# Altium footprint library jointbar.PCBLIB: 193 footprints (part 7 of 13)
Each footprint in its own frame and in the unit in brackets; x right, y up, seen from the top. Pads: shape width x height; smd on the part's side, far side on the other; paste and mask are expansions set on the pad; w line width, h text height; cw(c..) or ccw(c..) is an arc to the next point about the centre after c.
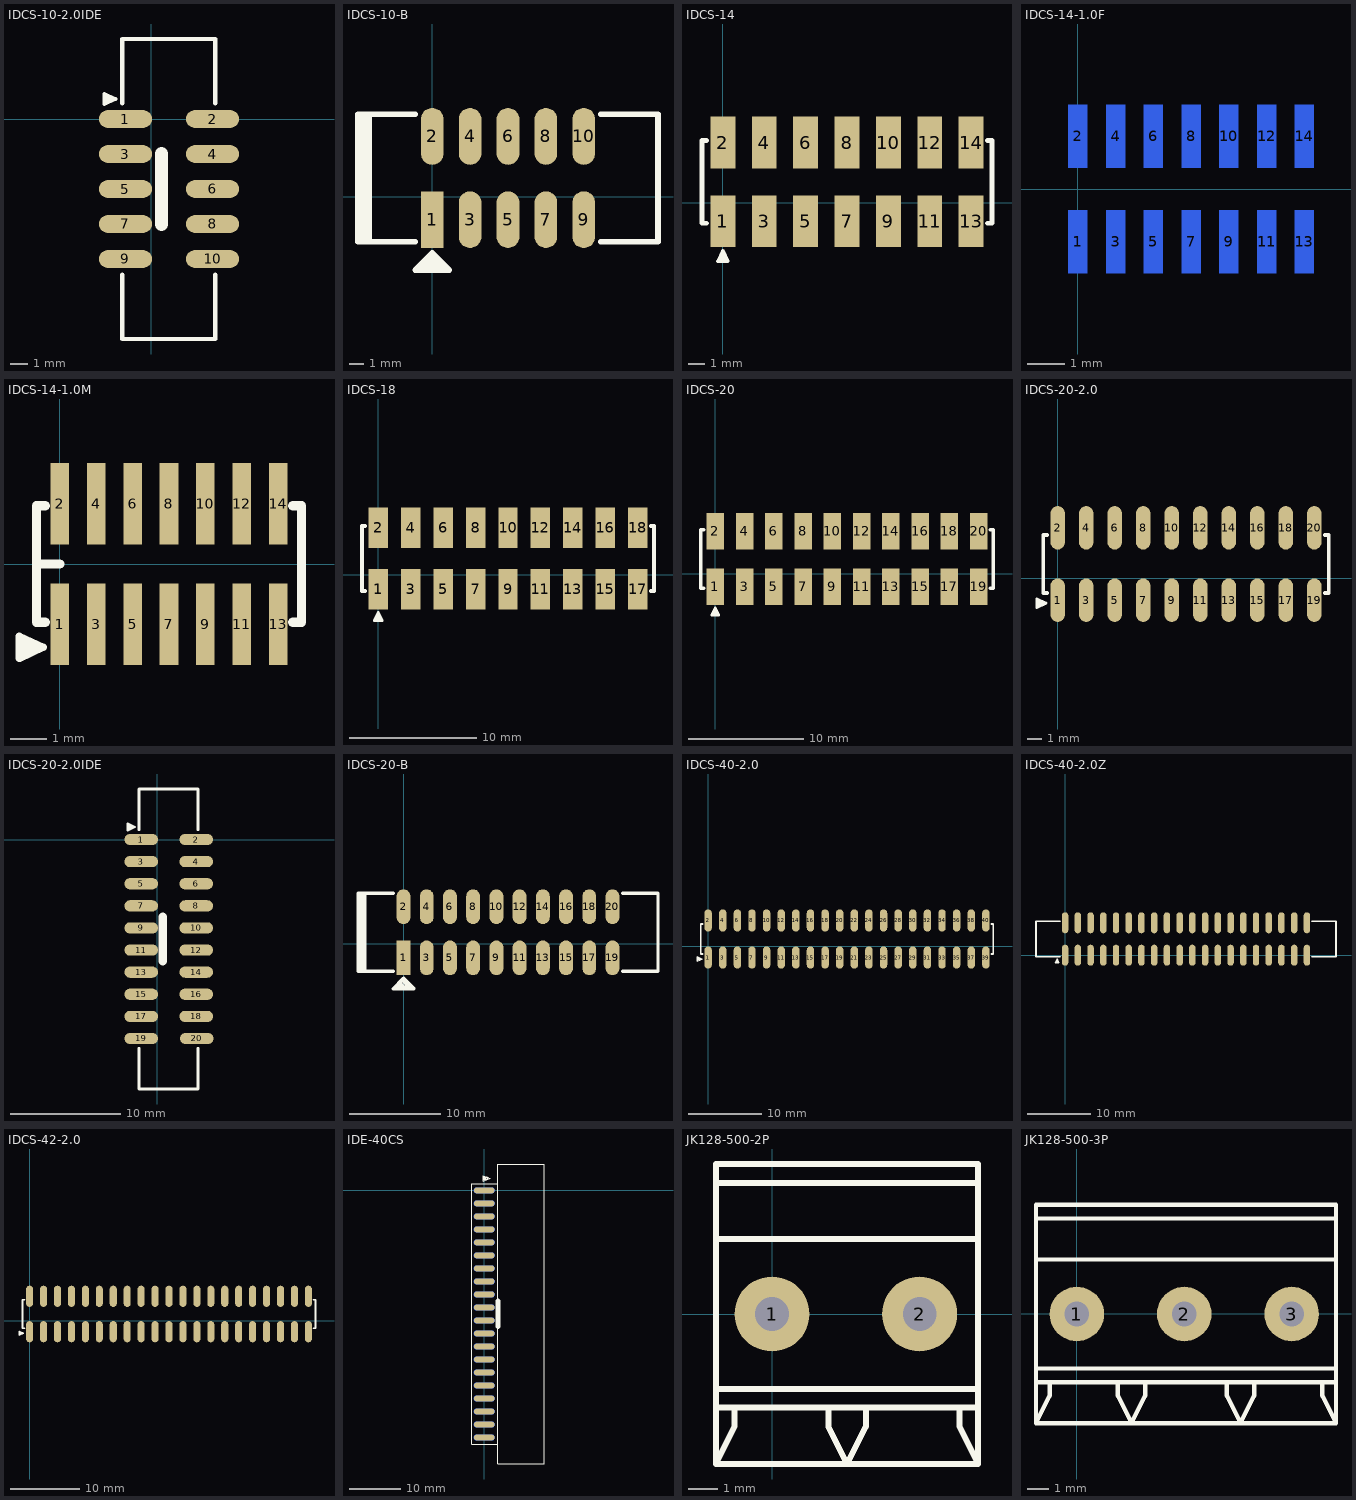
[diagram p6: the footprints below, top view; thin cyan lines are the x and y axes]

## IDCS-10-2.0IDE [mil]
pads (10):
  oval 120x40 smd: 1(-58,0) 2(138,0) 3(-58,-78.74) 4(138,-78.74) 5(-58,-157.48) 6(138,-157.48) 7(-58,-236.22) 8(138,-236.22) 9(-58,-314.96) 10(138,-314.96)
TopOverlay:
  lines w8: -106,33 -106,57 -80,45 -106,33
  lines w10: -65.63,-349.96 -65.63,-494.96 144.37,-494.96 144.37,-349.96 ; -65.63,35 -65.63,180 144.37,180 144.37,35
  lines w12: -104,45 -89,45
  lines w30: 23,-236.66 23,-78

## IDCS-10-B [mil]
pads (10):
  rect 60x150 smd: 1(0,-60)
  oval 60x150 smd: 2(0,160) 3(100,-60) 4(100,160) 5(200,-60) 6(200,160) 7(300,-60) 8(300,160) 9(400,-60) 10(400,160)
TopOverlay:
  lines w8: -12,-160 12,-160
  lines w15: -181,-118 -181,218 ; -167,-118 -167,218 ; -45,-118 -196,-118 -196,218 -45,218 ; -30.76,-182.24 -20,-193 ; -22.85,-175.15 -5,-193 ; -16.42,-166.58 10,-193 ; -5.68,-157.32 30,-193 ; 445,-118 596,-118 596,218 445,218 ; -45,-193 0,-148 45,-193 -45,-193

## IDCS-14 [mil]
pads (14):
  rect 60x125 smd: 1(0,-45) 2(0,145) 3(100,-45) 4(100,145) 5(200,-45) 6(200,145) 7(300,-45) 8(300,145) 9(400,-45) 10(400,145) 11(500,-45) 12(500,145) 13(600,-45) 14(600,145)
TopOverlay:
  lines w8: -12,-142 0,-116 12,-142 -12,-142
  lines w12: -40,-50 -50,-50 -50,150 -40,150 ; 0,-140 0,-125 ; 640,-50 650,-50 650,150 640,150

## IDCS-14-1.0F [mil]
pads (14):
  rect 20x66 smd far side: 1(0,-55) 2(0,55) 3(39.37,-55) 4(39.37,55) 5(78.74,-55) 6(78.74,55) 7(118.11,-55) 8(118.11,55) 9(157.48,-55) 10(157.48,55) 11(196.85,-55) 12(196.85,55) 13(236.22,-55) 14(236.22,55)
BottomOverlay:
  lines w8: -43.63,-82 -43.63,-58 -17.63,-70 -43.63,-82
  lines w10: -30,0 0,0 ; -20.63,-50 -30,-50 -30,50 -20.63,50 ; 256.85,-50 266.22,-50 266.22,50 256.85,50
  lines w12: -41.63,-70 -26.63,-70

## IDCS-14-1.0M [mil]
pads (14):
  rect 20x88 smd: 1(0,-65) 2(0,65) 3(39.37,-65) 4(39.37,65) 5(78.74,-65) 6(78.74,65) 7(118.11,-65) 8(118.11,65) 9(157.48,-65) 10(157.48,65) 11(196.85,-65) 12(196.85,65) 13(236.22,-65) 14(236.22,65)
TopOverlay:
  lines w8: -43.63,-102 -43.63,-78 -17.63,-90 -43.63,-102
  lines w10: -25,0 0,0 ; -15.63,-63 -25,-63 -25,63 -15.63,63 ; 251.85,-63 261.22,-63 261.22,63 251.85,63
  lines w12: -41.63,-90 -26.63,-90

## IDCS-18 [mil]
pads (18):
  rect 60x125 smd: 1(0,-45) 2(0,145) 3(100,-45) 4(100,145) 5(200,-45) 6(200,145) 7(300,-45) 8(300,145) 9(400,-45) 10(400,145) 11(500,-45) 12(500,145) 13(600,-45) 14(600,145) 15(700,-45) 16(700,145) 17(800,-45) 18(800,145)
TopOverlay:
  lines w8: -12,-142 0,-116 12,-142 -12,-142
  lines w12: -40,-50 -50,-50 -50,150 -40,150 ; 0,-140 0,-125 ; 840,-50 850,-50 850,150 840,150

## IDCS-20 [mil]
pads (20):
  rect 60x125 smd: 1(0,-45) 2(0,145) 3(100,-45) 4(100,145) 5(200,-45) 6(200,145) 7(300,-45) 8(300,145) 9(400,-45) 10(400,145) 11(500,-45) 12(500,145) 13(600,-45) 14(600,145) 15(700,-45) 16(700,145) 17(800,-45) 18(800,145) 19(900,-45) 20(900,145)
TopOverlay:
  lines w8: -12,-142 12,-142 0,-116 -12,-142
  lines w12: -40,-50 -50,-50 -50,150 -40,150 ; 0,-140 0,-125 ; 940,-50 950,-50 950,150 940,150

## IDCS-20-2.0 [mil]
pads (20):
  oval 40x120 smd: 1(0,-60) 2(0,140) 3(78.74,-60) 4(78.74,140) 5(157.48,-60) 6(157.48,140) 7(236.22,-60) 8(236.22,140) 9(314.96,-60) 10(314.96,140) 11(393.7,-60) 12(393.7,140) 13(472.44,-60) 14(472.44,140) 15(551.18,-60) 16(551.18,140) 17(629.92,-60) 18(629.92,140) 19(708.66,-60) 20(708.66,140)
TopOverlay:
  lines w8: -57.89,-80.26 -57.89,-56.26 -31.89,-68.26 -57.89,-80.26
  lines w10: -29,-40 -40,-40 -40,120 -29,120 ; 737.66,-40 748.66,-40 748.66,120 737.66,120
  lines w12: -55.89,-68.26 -40.89,-68.26

## IDCS-20-2.0IDE [mil]
pads (20):
  oval 120x40 smd: 1(-58,0) 2(138,0) 3(-58,-78.74) 4(138,-78.74) 5(-58,-157.48) 6(138,-157.48) 7(-58,-236.22) 8(138,-236.22) 9(-58,-314.96) 10(138,-314.96) 11(-58,-393.7) 12(138,-393.7) 13(-58,-472.44) 14(138,-472.44) 15(-58,-551.18) 16(138,-551.18) 17(-58,-629.92) 18(138,-629.92) 19(-58,-708.66) 20(140,-708.66)
TopOverlay:
  lines w8: -106,33 -80,45 -106,57 -106,33
  lines w10: -65.63,-743.66 -65.63,-888.66 144.37,-888.66 144.37,-743.66 ; -65.63,35 -65.63,180 144.37,180 144.37,35
  lines w12: -104,45 -89,45
  lines w30: 18,-433.66 18,-275

## IDCS-20-B [mil]
pads (20):
  rect 60x150 smd: 1(0,-60)
  oval 60x150 smd: 2(0,160) 3(100,-60) 4(100,160) 5(200,-60) 6(200,160) 7(300,-60) 8(300,160) 9(400,-60) 10(400,160) 11(500,-60) 12(500,160) 13(600,-60) 14(600,160) 15(700,-60) 16(700,160) 17(800,-60) 18(800,160) 19(900,-60) 20(900,160)
TopOverlay:
  lines w8: -12,-160 12,-160
  lines w15: -182,-118 -182,218 ; -167,-118 -167,218 ; -45,-118 -196,-118 -196,218 -45,218 ; -30.76,-182.24 -20,-193 ; -22.85,-175.15 -5,-193 ; -16.42,-166.58 10,-193 ; -5.68,-157.32 30,-193 ; 945,-118 1096,-118 1096,218 945,218 ; -45,-193 0,-148 45,-193 -45,-193

## IDCS-40-2.0 [mil]
pads (40):
  oval 40x120 smd: 1(0,-60) 2(0,140) 3(78.74,-60) 4(78.74,140) 5(157.48,-60) 6(157.48,140) 7(236.22,-60) 8(236.22,140) 9(314.96,-60) 10(314.96,140) 11(393.7,-60) 12(393.7,140) 13(472.44,-60) 14(472.44,140) 15(551.18,-60) 16(551.18,140) 17(629.92,-60) 18(629.92,140) 19(708.66,-60) 20(708.66,140) 21(787.4,-60) 22(787.4,140) 23(866.14,-60) 24(866.14,140) 25(944.88,-60) 26(944.88,140) 27(1023.62,-60) 28(1023.62,140) 29(1102.36,-60) 30(1102.36,140) 31(1181.1,-60) 32(1181.1,140) 33(1259.84,-60) 34(1259.84,140) 35(1338.58,-60) 36(1338.58,140) 37(1417.32,-60) 38(1417.32,140) 39(1496.06,-60) 40(1496.06,140)
TopOverlay:
  lines w8: -57.89,-80.26 -31.89,-68.26 -57.89,-56.26 -57.89,-80.26
  lines w10: -29,-40 -40,-40 -40,120 -29,120 ; 1525.06,-40 1536.06,-40 1536.06,120 1525.06,120
  lines w12: -55.89,-68.26 -40.89,-68.26

## IDCS-40-2.0Z [mil]
pads (40):
  oval 40x130 smd: 1(0,0) 2(0,200) 3(78.74,0) 4(78.74,200) 5(157.48,0) 6(157.48,200) 7(236.22,0) 8(236.22,200) 9(314.96,0) 10(314.96,200) 11(393.7,0) 12(393.7,200) 13(472.44,0) 14(472.44,200) 15(551.18,0) 16(551.18,200) 17(629.92,0) 18(629.92,200) 19(708.66,0) 20(708.66,200) 21(787.4,0) 22(787.4,200) 23(866.14,0) 24(866.14,200) 25(944.88,0) 26(944.88,200) 27(1023.62,0) 28(1023.62,200) 29(1102.36,0) 30(1102.36,200) 31(1181.1,0) 32(1181.1,200) 33(1259.84,0) 34(1259.84,200) 35(1338.58,0) 36(1338.58,200) 37(1417.32,0) 38(1417.32,200) 39(1496.06,0) 40(1496.06,200)
TopOverlay:
  lines w8: -62,-47 -38,-47 -50,-21 -62,-47
  lines w10: -30,-10 -180,-10 -180,210 -30,210 ; 1526.06,-10 1676.06,-10 1676.06,210 1526.06,210
  lines w12: -50,-45 -50,-30

## IDCS-42-2.0 [mil]
pads (42):
  oval 40x120 smd: 1(0,-60.63) 2(0,139.37) 3(78.74,-60.63) 4(78.74,139.37) 5(157.48,-60.63) 6(157.48,139.37) 7(236.22,-60.63) 8(236.22,139.37) 9(314.96,-60.63) 10(314.96,139.37) 11(393.7,-60.63) 12(393.7,139.37) 13(472.44,-60.63) 14(472.44,139.37) 15(551.18,-60.63) 16(551.18,139.37) 17(629.92,-60.63) 18(629.92,139.37) 19(708.66,-60.63) 20(708.66,139.37) 21(787.4,-60.63) 22(787.4,139.37) 23(866.14,-60.63) 24(866.14,139.37) 25(944.88,-60.63) 26(944.88,139.37) 27(1023.62,-60.63) 28(1023.62,139.37) 29(1102.36,-60.63) 30(1102.36,139.37) 31(1181.1,-60.63) 32(1181.1,139.37) 33(1259.84,-60.63) 34(1259.84,139.37) 35(1338.58,-60.63) 36(1338.58,139.37) 37(1417.32,-60.63) 38(1417.32,139.37) 39(1496.06,-60.63) 40(1496.06,139.37) 41(1574.8,-60.63) 42(1574.8,139.37)
TopOverlay:
  lines w8: -57.89,-80.89 -57.89,-56.89 -31.89,-68.89 -57.89,-80.89
  lines w10: -29,-40.63 -40,-40.63 -40,119.37 -29,119.37 ; 1603.8,-40.63 1614.8,-40.63 1614.8,119.37 1603.8,119.37
  lines w12: -55.89,-68.89 -40.89,-68.89

## IDE-40CS [mil]
pads (40):
  oval 160x45 smd: 1(0,0) 3(0,-100) 5(0,-200) 7(0,-300) 9(0,-400) 11(0,-500) 13(0,-600) 15(0,-700) 17(0,-800) 19(0,-900) 21(0,-1000) 23(0,-1100) 25(0,-1200) 27(0,-1300) 29(0,-1400) 31(0,-1500) 33(0,-1600) 35(0,-1700) 37(0,-1800) 39(0,-1900)
  oval 160x45 smd far side: 2(0,0) 4(0,-100) 6(0,-200) 8(0,-300) 10(0,-400) 12(0,-500) 14(0,-600) 16(0,-700) 18(0,-800) 20(0,-900) 22(0,-1000) 24(0,-1100) 26(0,-1200) 28(0,-1300) 30(0,-1400) 32(0,-1500) 34(0,-1600) 36(0,-1700) 38(0,-1800) 40(0,-1900)
TopOverlay:
  lines w8: 36,98 29,88 26,100 19,84 18,105 10,81 9,105 1,77 1,111 -6,111 -6,114 ; 106,-1950 -94,-1950 -94,50 106,50 ; 460.07,-1950 460.07,50 ; 460.03,-1949.67 460.03,-2103.67 106.03,-2103.67 106.03,203.33 460.03,203.33 460.03,50.33 ; -6,114 48,94 -6,72 -6,114
  lines w35: 106.03,-1049.67 106.03,-849.67

## JK128-500-2P [mil]
pads (2):
  round 100 hole 45: 1(0,0) 2(196.85,0)
TopOverlay:
  lines w8: -75,-125 275,-125 ; -75,-100 275,-100 ; -75,100 275,100 ; -75,175 275,175 ; -50,-125 -50,-150 -75,-200 ; 75,-125 75,-150 100,-200 125,-150 125,-125 ; 250,-125 250,-150 275,-200 ; -75,-200 275,-200 ; -75,-200 -75,200 275,200 275,-200

## JK128-500-3P [mil]
pads (3):
  round 100 hole 45: 1(0,-0.02) 2(196.85,-0.02) 3(393.7,-0.02)
TopOverlay:
  lines w8: -75,-125.02 225,-125.02 275,-125.02 275,-150.02 300,-200.02 325,-150.02 325,-125.02 ; -75,99.98 225,99.98 275,99.98 ; -75,174.98 225,174.98 275,174.98 ; -50,-125.02 -50,-150.02 -75,-200.02 ; 75,-125.02 75,-150.02 100,-200.02 125,-150.02 125,-125.02 425,-125.02 475,-125.02 ; 125,-200.02 425,-200.02 475,-200.02 ; 125,-100.02 425,-100.02 475,-100.02 ; 125,99.98 425,99.98 475,99.98 ; 125,174.98 425,174.98 475,174.98 ; 125,199.98 425,199.98 475,199.98 475,149.98 475,-150.02 475,-200.02 ; 275,-200.02 225,-200.02 -75,-200.02 ; 275,-100.02 225,-100.02 -75,-100.02 ; 275,199.98 225,199.98 -75,199.98 -75,-100.02 ; 450,-125.02 450,-150.02 475,-200.02 ; -75,-200.02 -75,-100.02